# EAGLE library part ATMEGA328PB-MU (library ATMEGA328PB-MU)
AVR 32KBytes Flash, 1KBytes EEPROM, 2KBytes RAM, w - 20MHZ, QFN/MFL, IND TEMP, GREEN 5 V/ DFN/QFN (M) Check prices <https://pricing.snapeda.com/parts/ATMEGA328PB-MU/Microchip%20Technology/view-part?ref=eda>
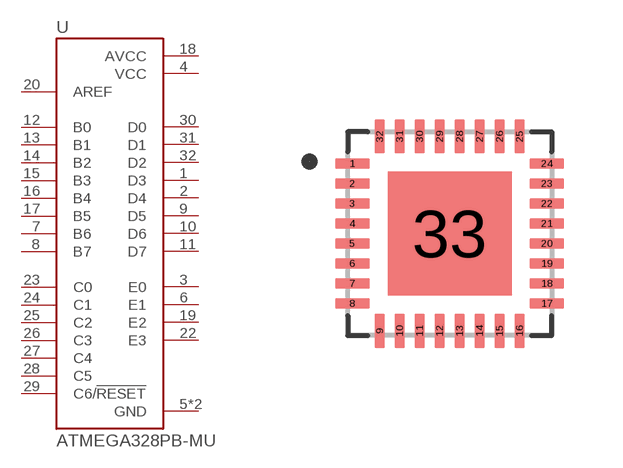
[diagram p0: symbol with the pads of QFN50P500X500X90-33N; footprint QFN50P500X500X90-33N]

Designator prefix U

## ATMEGA328PB-MU (AVAILABILITY: Good; DESCRIPTION: AVR AVR® ATmega, Functional Safety (FuSa) Microcontroller IC 8-Bit 20MHz 32KB (16K x 16) FLASH 32-VFQFN (5x5); MF: Microchip Technology; MP: ATMEGA328PB-MU; PACKAGE: VFQFN-32 Atmel; PRICE: None; PURCHASE-URL: https://pricing.snapeda.com/search/part/ATMEGA328PB-MU/?ref=eda)  [QFN50P500X500X90-33N]
1  D3
2  D4
3  E0
4  VCC  pwr
5  GND  pwr
6  E1
7  B6
8  B7
9  D5
10  D6
11  D7
12  B0
13  B1
14  B2
15  B3
16  B4
17  B5
18  AVCC  pwr
19  E2
20  AREF  in
21  GND  pwr
22  E3
23  C0
24  C1
25  C2
26  C3
27  C4
28  C5
29  C6/!RESET!
30  D0
31  D1
32  D2

## Footprint QFN50P500X500X90-33N (pad centres in mm)
smd 0.86 x 0.26: 1 -2.435,1.75; 2 -2.435,1.25; 3 -2.435,0.75; 4 -2.435,0.25; 5 -2.435,-0.25; 6 -2.435,-0.75; 7 -2.435,-1.25; 8 -2.435,-1.75; 17 2.435,-1.75; 18 2.435,-1.25; 19 2.435,-0.75; 20 2.435,-0.25; 21 2.435,0.25; 22 2.435,0.75; 23 2.435,1.25; 24 2.435,1.75
smd 0.26 x 0.86: 9 -1.75,-2.435; 10 -1.25,-2.435; 11 -0.75,-2.435; 12 -0.25,-2.435; 13 0.25,-2.435; 14 0.75,-2.435; 15 1.25,-2.435; 16 1.75,-2.435; 25 1.75,2.435; 26 1.25,2.435; 27 0.75,2.435; 28 0.25,2.435; 29 -0.25,2.435; 30 -0.75,2.435; 31 -1.25,2.435; 32 -1.75,2.435
smd 3.1 x 3.1: 33 0,0